# EAGLE library part TGM-P3-A (library halo-electronics)
Isolation Transformer
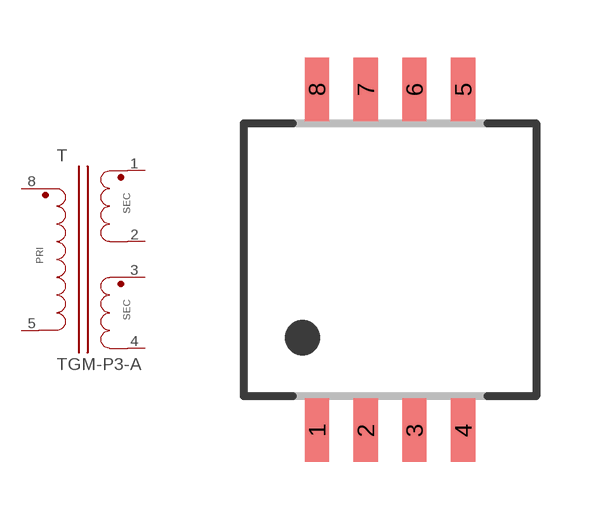
[diagram p3: symbol with the pads of TGM-P3; footprint TGM-P3]

Designator prefix T

## TGM-P3-A  [TGM-P3]
1  1  pas
2  2  pas
3  3  pas
4  4  pas
5  5  pas
8  8  pas

## Footprint TGM-P3 (pad centres in mm)
ISOLATION TRANSFORMER
smd 0.635 x 1.651: 1 -1.905,-4.445; 2 -0.635,-4.445; 3 0.635,-4.445; 4 1.905,-4.445; 5 1.905,4.445; 6 0.635,4.445; 7 -0.635,4.445; 8 -1.905,4.445